# EAGLE library part CH340G (library SD-SolderSync-Library)
Check availability <https://pricing.snapeda.com/parts/Ch340G/WCH/view-part?ref=eda>
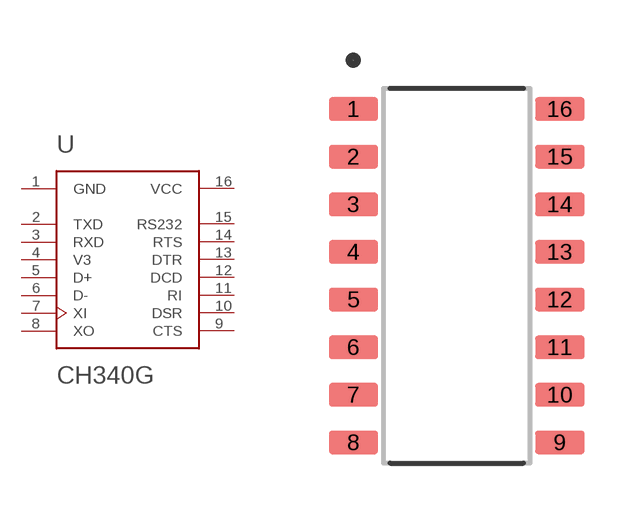
[diagram p4: symbol with the pads of SOIC127P600X180-16N; footprint SOIC127P600X180-16N]

Designator prefix U

## CH340G (AVAILABILITY: Not in stock; CHECK_PRICES: https://www.snapeda.com/parts/Ch340G/WCH/view-part/?ref=eda; DESCRIPTION: USB Interface Integrated Circuit; MF: WCH; MP: Ch340G; PACKAGE: None; PRICE: None; SNAPEDA_LINK: https://www.snapeda.com/parts/Ch340G/WCH/view-part/?ref=snap)  [SOIC127P600X180-16N]
1  GND  pwr
2  TXD  out
3  RXD  in
4  V3  pwr
5  D+
6  D-
7  XI  in
8  XO  out
9  CTS  nc
10  DSR  nc
11  RI  nc
12  DCD  nc
13  DTR  out
14  RTS  out
15  RS232  nc
16  VCC  pwr

## Footprint SOIC127P600X180-16N (pad centres in mm)
smd 1.31 x 0.62: 1 -2.75,4.445; 2 -2.75,3.175; 3 -2.75,1.905; 4 -2.75,0.635; 5 -2.75,-0.635; 6 -2.75,-1.905; 7 -2.75,-3.175; 8 -2.75,-4.445; 9 2.75,-4.445; 10 2.75,-3.175; 11 2.75,-1.905; 12 2.75,-0.635; 13 2.75,0.635; 14 2.75,1.905; 15 2.75,3.175; 16 2.75,4.445